# EAGLE library part EXB2HV (library Panasonic-EXB-ERJ)
Chip Resistor Array
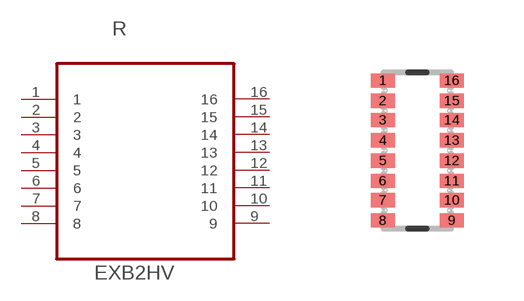
[diagram p5: symbol with the pads of RESCAXE50P380X160X55-16N; footprint RESCAXE50P380X160X55-16N]

Designator prefix R

## EXB2HV100JV (MPN: EXB2HV100JV; OC_FARNELL: 2060064; OC_NEWARK: 65T9034; PACKAGE: 0402; POWERRATING: 0.063 W/element (0.25 W/package); SUPPLIER: PANASONIC; TOLERANCE: ±5 %; VALUE: 10R), EXB2HV101JV (MPN: EXB2HV101JV; OC_FARNELL: 2060071; OC_NEWARK: 65T9035; PACKAGE: 0402; POWERRATING: 0.063 W/element (0.25 W/package); SUPPLIER: PANASONIC; TOLERANCE: ±5 %; VALUE: 100R), EXB2HV102JV (MPN: EXB2HV102JV; OC_FARNELL: 2060078; OC_NEWARK: 65T9036; PACKAGE: 0402; POWERRATING: 0.063 W/element (0.25 W/package); SUPPLIER: PANASONIC; TOLERANCE: ±5 %; VALUE: 1K), EXB2HV103JV (MPN: EXB2HV103JV; OC_FARNELL: 2060081; OC_NEWARK: 65T9037; PACKAGE: 0402; POWERRATING: 0.063 W/element (0.25 W/package); SUPPLIER: PANASONIC; TOLERANCE: ±5 %; VALUE: 10K), EXB2HV104JV (MPN: EXB2HV104JV; OC_FARNELL: 2060082; OC_NEWARK: 65T9038; PACKAGE: 0402; POWERRATING: 0.063 W/element (0.25 W/package); SUPPLIER: PANASONIC; TOLERANCE: ±5 %; VALUE: 100K), EXB2HV121JV (MPN: EXB2HV121JV; OC_FARNELL: 2060072; OC_NEWARK: 65T9039; PACKAGE: 0402; POWERRATING: 0.063 W/element (0.25 W/package); SUPPLIER: PANASONIC; TOLERANCE: ±5 %; VALUE: 120R), EXB2HV220JV (MPN: EXB2HV220JV; OC_FARNELL: 2060065; OC_NEWARK: 65T9040; PACKAGE: 0402; POWERRATING: 0.063 W/element (0.25 W/package); SUPPLIER: PANASONIC; TOLERANCE: ±5 %; VALUE: 22R), EXB2HV221JV (MPN: EXB2HV221JV; OC_FARNELL: 2060074; OC_NEWARK: 65T9041; PACKAGE: 0402; POWERRATING: 0.063 W/element (0.25 W/package); SUPPLIER: PANASONIC; TOLERANCE: ±5 %; VALUE: 220R), EXB2HV222JV (MPN: EXB2HV222JV; OC_FARNELL: 2060079; OC_NEWARK: 65T9042; PACKAGE: 0402; POWERRATING: 0.063 W/element (0.25 W/package); SUPPLIER: PANASONIC; TOLERANCE: ±5 %; VALUE: 2K2), EXB2HV330JV (MPN: EXB2HV330JV; OC_FARNELL: 2060066; OC_NEWARK: 65T9043; PACKAGE: 0402; POWERRATING: 0.063 W/element (0.25 W/package); SUPPLIER: PANASONIC; TOLERANCE: ±5 %; VALUE: 33R), EXB2HV331JV (MPN: EXB2HV331JV; OC_FARNELL: 2060075; OC_NEWARK: 65T9044; PACKAGE: 0402; POWERRATING: 0.063 W/element (0.25 W/package); SUPPLIER: PANASONIC; TOLERANCE: ±5 %; VALUE: 330R), EXB2HV390JV (MPN: EXB2HV390JV; OC_FARNELL: 2060067; OC_NEWARK: 65T9045; PACKAGE: 0402; POWERRATING: 0.063 W/element (0.25 W/package); SUPPLIER: PANASONIC; TOLERANCE: ±5 %; VALUE: 39R), EXB2HV470JV (MPN: EXB2HV470JV; OC_FARNELL: 2060068; OC_NEWARK: 65T9046; PACKAGE: 0402; POWERRATING: 0.063 W/element (0.25 W/package); SUPPLIER: PANASONIC; TOLERANCE: ±5 %; VALUE: 47R), EXB2HV471JV (MPN: EXB2HV471JV; OC_FARNELL: 2060076; OC_NEWARK: 65T9047; PACKAGE: 0402; POWERRATING: 0.063 W/element (0.25 W/package); SUPPLIER: PANASONIC; TOLERANCE: ±5 %; VALUE: 470R), EXB2HV472JV (MPN: EXB2HV472JV; OC_FARNELL: 2060080; OC_NEWARK: 65T9048; PACKAGE: 0402; POWERRATING: 0.063 W/element (0.25 W/package); SUPPLIER: PANASONIC; TOLERANCE: ±5 %; VALUE: 4K7), EXB2HV510JV (MPN: EXB2HV510JV; OC_FARNELL: 2060069; OC_NEWARK: 65T9049; PACKAGE: 0402; POWERRATING: 0.063 W/element (0.25 W/package); SUPPLIER: PANASONIC; TOLERANCE: ±5 %; VALUE: 51R), EXB2HV560JV (MPN: EXB2HV560JV; OC_FARNELL: 2060070; OC_NEWARK: 65T9050; PACKAGE: 0402; POWERRATING: 0.063 W/element (0.25 W/package); SUPPLIER: PANASONIC; TOLERANCE: ±5 %; VALUE: 56R), EXB2HV561JV (MPN: EXB2HV561JV; OC_FARNELL: 2060077; OC_NEWARK: 65T9051; PACKAGE: 0402; POWERRATING: 0.063 W/element (0.25 W/package); SUPPLIER: PANASONIC; TOLERANCE: ±5 %; VALUE: 560R), EXB2HVR000V (MPN: EXB2HVR000V; OC_FARNELL: 2060063; OC_NEWARK: 65T9033; PACKAGE: 0402; POWERRATING: 0.063 W/element (0.25 W/package); SUPPLIER: PANASONIC; TOLERANCE: Jumper; VALUE: 0R)  [RESCAXE50P380X160X55-16N]
1  1  pas
2  2  pas
3  3  pas
4  4  pas
5  5  pas
6  6  pas
7  7  pas
8  8  pas
9  9  pas
10  10  pas
11  11  pas
12  12  pas
13  13  pas
14  14  pas
15  15  pas
16  16  pas

## Footprint RESCAXE50P380X160X55-16N (pad centres in mm)
smd 0.61 x 0.356: 1 -0.864,1.753; 2 -0.864,1.245; 3 -0.864,0.762; 4 -0.864,0.254; 5 -0.864,-0.254; 6 -0.864,-0.762; 7 -0.864,-1.245; 8 -0.864,-1.753; 9 0.864,-1.753; 10 0.864,-1.245; 11 0.864,-0.762; 12 0.864,-0.254; 13 0.864,0.254; 14 0.864,0.762; 15 0.864,1.245; 16 0.864,1.753